# Altium footprint library RCID.PcbLib: 104 footprints (part 2 of 7)
Each footprint in its own frame and in the unit in brackets; x right, y up, seen from the top. Pads: shape width x height; smd on the part's side, far side on the other; paste and mask are expansions set on the pad; w line width, h text height; cw(c..) or ccw(c..) is an arc to the next point about the centre after c.
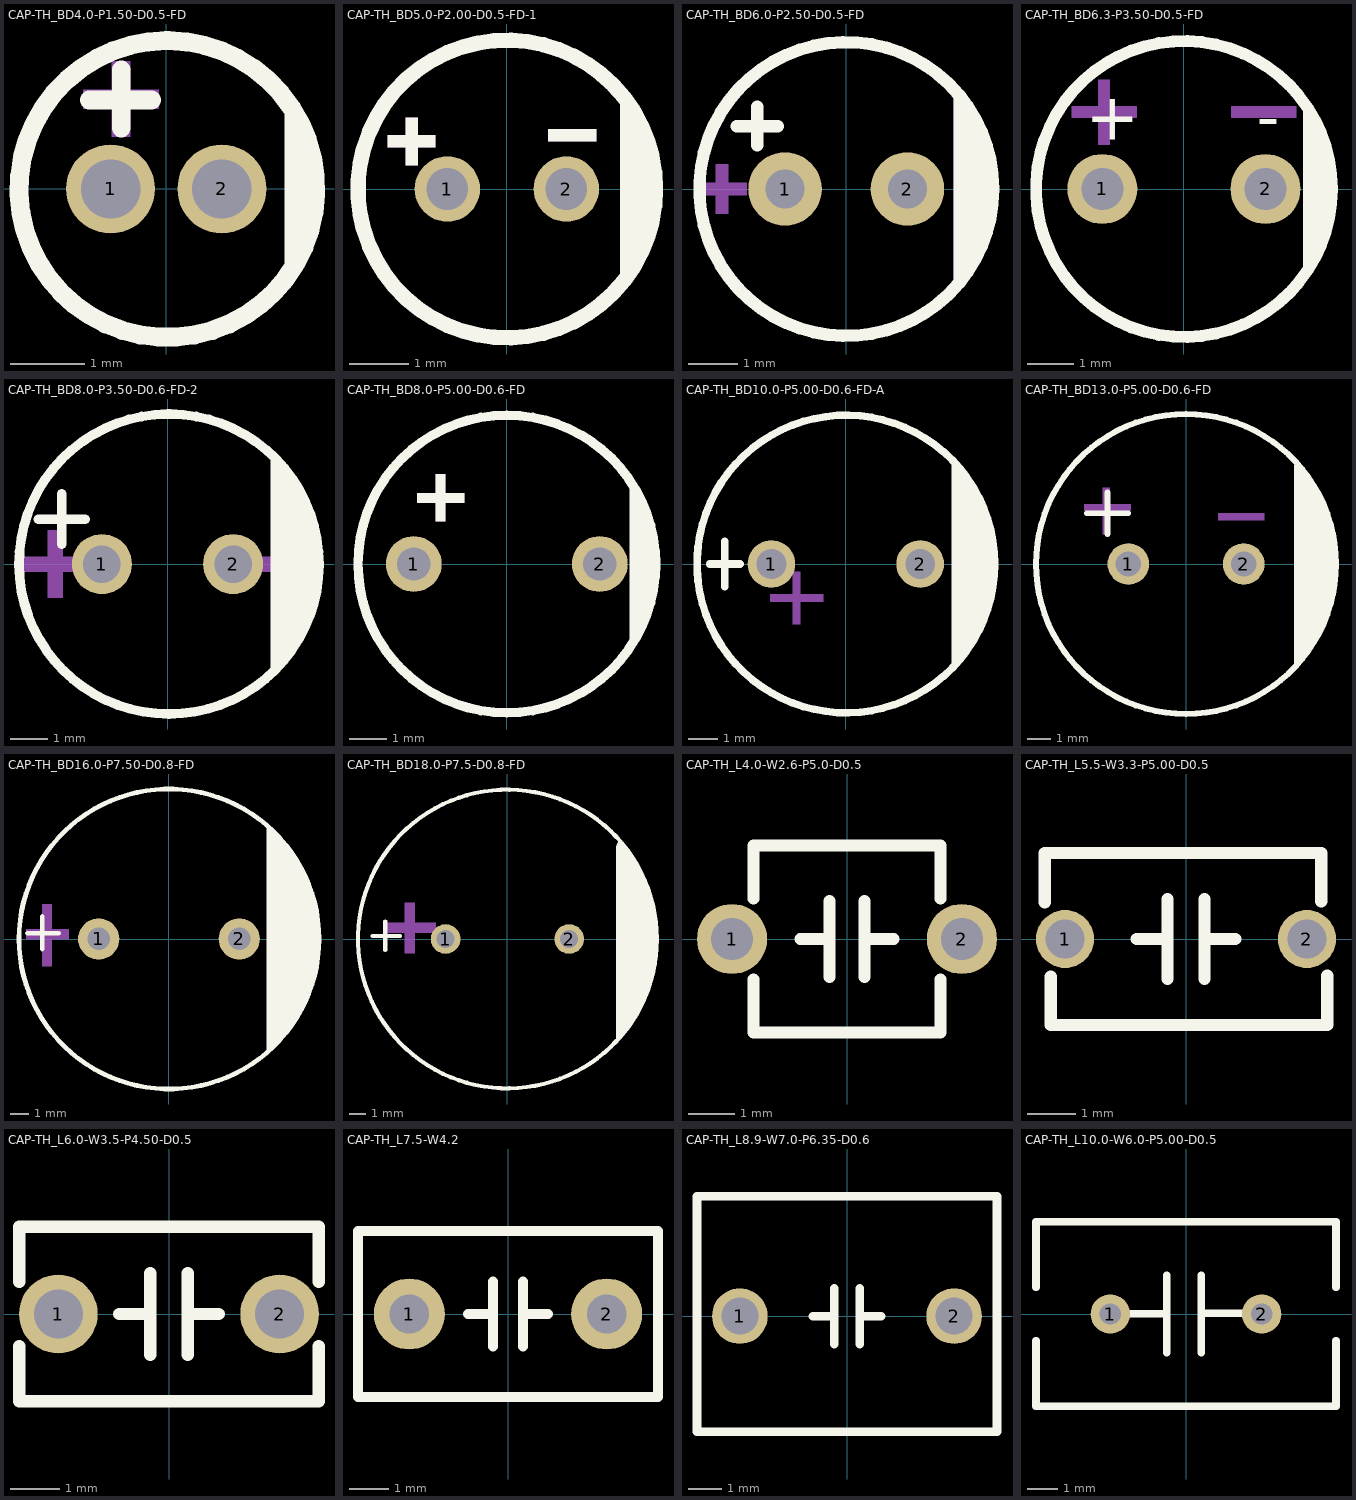
[diagram p1: the footprints below, top view; thin cyan lines are the x and y axes]

## CAP-TH_BD4.0-P1.50-D0.5-FD [mm]
pads (2):
  round 1.2 hole 0.8 paste-2539.97 mask+0.05: 1(-0.75,0) 2(0.75,0)
Top Overlay:
  region: 1.6,-1.2 1.71,-1.077 1.882,-0.796 1.999,-0.489 2.059,-0.165 2.059,0.165 1.999,0.489 1.882,0.796 1.71,1.077 1.6,1.2
  lines w0.254: -1.038,1.2 -0.2,1.2 ; -0.606,0.819 -0.606,1.606 ; -0.001,1.999 ccw(c0.015,-0.001) 0.032,1.999
Mechanical 15:
  region: -1.118,1.337 -0.737,1.337 -0.102,1.337 -0.102,1.083 -1.118,1.083
  region: -0.737,0.702 -0.737,1.083 -0.737,1.718 -0.483,1.718 -0.483,0.702
  region: 1.651,1.016 1.742,0.925 1.884,0.712 1.982,0.476 2.032,0.224 2.032,0.096 2.032,-0.223 2.032,-0.351 1.982,-0.603 1.884,-0.839 1.742,-1.052 1.651,-1.143

## CAP-TH_BD5.0-P2.00-D0.5-FD-1 [mm]
pads (2):
  round 1.1 hole 0.7 paste-2539.97 mask+0.05: 1(-1,0) 2(1,0)
Top Overlay:
  circle w0.254: c0,0 r2.5
  region: -1.7,0.5 -1.7,1.2 -1.5,1.2 -1.5,0.4 -1.7,0.4
  region: -1.9,0.9 -1.2,0.9 -1.2,0.7 -2,0.7 -2,0.9
  region: 0.8,1 1.5,1 1.5,0.8 0.7,0.8 0.7,1
  region: 1.905,1.651 1.905,-1.524 1.911,-1.518 2.061,-1.368 2.296,-1.017 2.458,-0.626 2.54,-0.211 2.54,0 2.54,0.171 2.54,0.341 2.473,0.676 2.343,0.992 2.153,1.276 2.032,1.397
Mechanical 15:
  region: 0.8,1 1.5,1 1.5,0.8 0.7,0.8 0.7,1
  region: -1.7,0.5 -1.7,1.2 -1.5,1.2 -1.5,0.4 -1.7,0.4
  region: -1.9,0.9 -1.2,0.9 -1.2,0.7 -2,0.7 -2,0.9

## CAP-TH_BD6.0-P2.50-D0.5-FD [mm]
pads (2):
  round 1.5 hole 0.8 paste-2539.97 mask+0.051: 1(-1.25,0) 2(1.25,0)
Top Overlay:
  circle w0.254: c0,0 r3
  region: 2.2,-2.1 2.339,-1.961 2.578,-1.649 2.775,-1.308 2.926,-0.945 3.027,-0.565 3.079,-0.175 3.079,0.218 3.027,0.608 2.926,0.988 2.775,1.351 2.578,1.692 2.339,2.004 2.2,2.143
  lines w0.254: -2.235,1.284 -1.397,1.284 ; -1.816,0.89 -1.816,1.677
Mechanical 15:
  region: 2.2,-2.1 2.339,-1.961 2.578,-1.649 2.775,-1.308 2.926,-0.945 3.027,-0.565 3.079,-0.175 3.079,0.218 3.027,0.608 2.926,0.988 2.775,1.351 2.578,1.692 2.339,2.004 2.2,2.143
  region: -3.048,0.127 -2.667,0.127 -2.667,0.508 -2.413,0.508 -2.413,0.127 -2.032,0.127 -2.032,-0.127 -2.413,-0.127 -2.413,-0.508 -2.667,-0.508 -2.667,-0.127 -3.048,-0.127

## CAP-TH_BD6.3-P3.50-D0.5-FD [mm]
pads (2):
  round 1.5 hole 0.9 paste-2539.97 mask+0.05: 1(-1.75,0) 2(1.75,0)
Top Overlay:
  circle w0.254: c0,0 r3.175
  region: 2.56,1.78 2.717,1.587 2.967,1.157 3.146,0.692 3.25,0.206 3.263,-0.043 3.251,-0.293 3.148,-0.783 2.969,-1.252 2.718,-1.686 2.56,-1.88
  text "-" at 2.055,1.821 h1
  text "+" at -2.111,1.053 h1
Mechanical 15:
  region: -2.413,1.778 -1.016,1.778 -1.016,1.524 -2.413,1.524
  region: -1.841,0.953 -1.841,2.349 -1.587,2.349 -1.587,0.953
  region: 1.016,1.778 2.413,1.778 2.413,1.524 1.016,1.524

## CAP-TH_BD8.0-P3.50-D0.6-FD-2 [mm]
pads (2):
  round 1.6 hole 1 paste-2539.97 mask+0.051: 1(-1.75,0) 2(1.75,0)
Top Overlay:
  region: 2.75,-3 2.941,-2.8 3.268,-2.355 3.536,-1.872 3.741,-1.359 3.88,-0.824 3.95,-0.276 3.95,0.276 3.88,0.824 3.741,1.359 3.536,1.872 3.268,2.355 2.941,2.8 2.75,3
  lines w0.254: -3.445,1.2 -2.2,1.2 ; -2.822,0.527 -2.822,1.873 ; 0.003,4 ccw(c0.038,0.001) 0.074,4
Mechanical 15:
  region: -3.2,0.5 -3.2,-0.9 -2.8,-0.9 -2.8,0.7 -2.8,0.9 -3.2,0.9
  region: -2.5,0.2 -3.9,0.2 -3.9,-0.2 -2.3,-0.2 -2.1,-0.2 -2.1,0.2
  region: 3.5,0.2 2.1,0.2 2.1,-0.2 3.7,-0.2 3.9,-0.2 3.9,0.2

## CAP-TH_BD8.0-P5.00-D0.6-FD [mm]
pads (2):
  round 1.5 hole 0.9 paste-2539.97 mask+0.051: 1(-2.5,0) 2(2.5,0)
Top Overlay:
  circle w0.254: c0,0 r4
  region: 3.302,2.032 3.302,-2.286 3.81,-1.27 4.064,0 3.81,1.016 3.556,2.032
  region: -2.413,1.905 -2.413,1.651 -1.905,1.651 -1.905,1.143 -1.651,1.143 -1.651,1.651 -1.143,1.651 -1.143,1.905 -1.651,1.905 -1.651,2.413 -1.905,2.413 -1.905,1.905
Mechanical 15:
  region: -2.413,1.905 -2.413,1.651 -1.905,1.651 -1.905,1.143 -1.651,1.143 -1.651,1.651 -1.143,1.651 -1.143,1.905 -1.651,1.905 -1.651,2.413 -1.905,2.413 -1.905,1.905

## CAP-TH_BD10.0-P5.00-D0.6-FD-A [mm]
pads (2):
  round 1.6 hole 1 paste-2539.97 mask+0.051: 1(-2.5,0) 2(2.5,0)
Top Overlay:
  circle w0.254: c0,0 r5
  region: 3.556,3.556 3.556,-3.556 4.318,-2.54 4.826,-1.016 5.08,0.508 4.826,1.524
  lines w0.254: -4.572,0 -3.556,0 ; -4.064,-0.762 -4.064,0.762
Mechanical 15:
  region: -2.54,-1.016 -0.762,-1.016 -0.762,-1.27 -2.54,-1.27
  region: -1.778,-0.762 -1.778,-2.032 -1.524,-2.032 -1.524,-0.254 -1.778,-0.254

## CAP-TH_BD13.0-P5.00-D0.6-FD [mm]
pads (2):
  round 1.8 hole 1.1 paste-2539.97 mask+0.051: 1(-2.5,0) 2(2.5,0)
Top Overlay:
  circle w0.254: c-0.001,0 r6.5
  region: 4.7,4.3 4.7,-4.5 5.8,-3 6.3,-1.7 6.4,-0.5 6.3,1.5 5.7,3.2
  lines w0.254: -4.301,2.2 -2.501,2.2 ; -3.401,1.3 -3.401,3.1
Mechanical 15:
  region: 4.72,4.286 4.72,-4.514 5.82,-3.014 6.32,-1.714 6.42,-0.514 6.32,1.486 5.72,3.186
  region: -4.4,2.6 -2.5,2.6 -2.4,2.6 -2.4,2.5 -2.4,2.3 -4.4,2.3
  region: -3.6,1.3 -3.6,3.2 -3.6,3.3 -3.5,3.3 -3.3,3.3 -3.3,1.3
  region: 1.4,2.2 3.3,2.2 3.4,2.2 3.4,2.1 3.4,1.9 1.4,1.9

## CAP-TH_BD16.0-P7.50-D0.8-FD [mm]
pads (2):
  round 2.2 hole 1.2 paste-2539.97 mask+0.051: 1(-3.75,0) 2(3.75,0)
Top Overlay:
  circle w0.254: c0,0 r8
  region: 5.207,-6.096 5.535,-5.814 6.126,-5.182 6.646,-4.49 7.089,-3.746 7.449,-2.96 7.724,-2.139 7.908,-1.293 8.001,-0.433 8.001,0.433 7.908,1.293 7.724,2.139 7.449,2.96 7.089,3.746 6.646,4.49 6.126,5.182 5.535,5.814 5.207,6.096
  lines w0.254: -7.553,0.305 -5.877,0.305 ; -6.766,-0.533 -6.766,1.194
Mechanical 15:
  region: 7.7,-0.2 5.414,-0.2 5.414,0.308 7.7,0.308
  region: -6.754,1.851 -6.246,1.851 -6.246,-1.451 -6.754,-1.451
  region: -7.62,0.508 -5.334,0.508 -5.334,0 -7.62,0

## CAP-TH_BD18.0-P7.5-D0.8-FD [mm]
pads (2):
  round 1.8 hole 1.1 paste-2539.97 mask+0.05: 1(-3.75,0) 2(3.75,0)
Top Overlay:
  circle w0.254: c0,0 r9.066
  region: 9.017,0 9.017,0.323 9.03,0.711 8.978,1.486 8.849,2.252 8.645,3.001 8.368,3.726 8.02,4.42 7.604,5.077 7.126,5.688 6.858,5.969 6.796,5.941 6.696,5.851 6.628,5.734 6.598,5.603 6.604,5.535 6.604,-6.35 6.905,-6.049 7.446,-5.39 7.919,-4.682 8.321,-3.93 8.647,-3.143 8.894,-2.328 9.06,-1.492 9.144,-0.644 9.144,-0.218 9.144,0
  lines w0.254: -8.195,0.178 -6.519,0.178 ; -7.408,-0.66 -7.408,1.067
Mechanical 15:
  region: -7.395,0.39 -7.395,1 -4.345,1 -4.345,0.39
  region: -5.62,-0.86 -6.23,-0.86 -6.23,2.19 -5.62,2.19

## CAP-TH_L4.0-W2.6-P5.0-D0.5 [mil]
pads (2):
  round 60 hole 36 paste-99999 mask+1.97: 1(-98.43,0) 2(98.42,0)
Top Overlay:
  lines w10: -80,-34.47 -80,-80 80,-80 80,-34.47 ; -80,34.47 -80,80 -30,80 ; -60.01,80 80,80 80,34.47 ; -40.01,0 -15.01,0 ; -15.01,-32.5 -15.01,32.5 ; 14.99,-32.5 14.99,32.5 ; 14.99,0 39.99,0

## CAP-TH_L5.5-W3.3-P5.00-D0.5 [mm]
pads (2):
  round 1.2 hole 0.8 paste-2539.97 mask+0.05: 1(-2.5,0) 2(2.5,0)
Top Overlay:
  lines w0.254: -2.921,0.762 -2.921,1.778 2.794,1.778 2.794,0.777 ; -2.794,-0.777 -2.794,-1.778 2.921,-1.778 2.921,-0.762 ; -1.016,0 -0.381,0 ; -0.381,-0.826 -0.381,0.826 ; 0.381,-0.826 0.381,0.826 ; 0.381,0 1.016,0

## CAP-TH_L6.0-W3.5-P4.50-D0.5 [mm]
pads (2):
  round 1.6 hole 1 paste-2539.97 mask+0.051: 1(-2.25,0) 2(2.25,0)
Top Overlay:
  lines w0.254: -3.048,-0.652 -3.048,-1.778 3.048,-1.778 3.048,-0.652 ; -3.048,0.652 -3.048,1.778 3.048,1.778 3.048,0.652 ; -1.016,0 -0.381,0 ; -0.381,-0.826 -0.381,0.826 ; 0.381,-0.826 0.381,0.826 ; 0.381,0 1.016,0

## CAP-TH_L7.5-W4.2 [mm]
pads (2):
  round 1.8 hole 1 paste-2539.97 mask+0.051: 1(-2.5,0) 2(2.5,0)
Top Overlay:
  lines w0.254: -1.016,0 -0.381,0 ; -0.381,-0.826 -0.381,0.826 ; 0.381,-0.826 0.381,0.826 ; 0.381,0 1.016,0 ; -3.8,-2.1 3.8,-2.1 3.8,2.1 -3.8,2.1 -3.8,-2.1

## CAP-TH_L8.9-W7.0-P6.35-D0.6 [mm]
pads (2):
  round 1.65 hole 1.1 paste-2539.97 mask+0.05: 1(-3.175,0) 2(3.175,0)
Top Overlay:
  lines w0.254: -1.016,0 -0.381,0 ; -0.381,-0.826 -0.381,0.826 ; 0.381,-0.826 0.381,0.826 ; 0.381,0 1.016,0 ; -4.445,-3.429 4.445,-3.429 4.445,3.556 -4.445,3.556 -4.445,-3.429

## CAP-TH_L10.0-W6.0-P5.00-D0.5 [mm]
pads (2):
  round 1.3 hole 0.7 paste-2539.97 mask+0.05: 1(-2.5,0) 2(2.5,0)
Top Overlay:
  lines w0.254: -4.953,-0.88 -4.953,-3.048 4.953,-3.048 4.953,-0.88 ; -4.953,0.88 -4.953,3.048 4.953,3.048 4.953,0.88 ; -2.667,0.011 -0.635,0.011 ; -0.635,-1.27 -0.635,1.27 ; 0.508,-1.27 0.508,1.27 ; 0.508,0.024 2.667,0.024